# EAGLE library part ISO1042QDWVRQ1 (library SamacSys_Parts)
3.3V Isolated CAN Transceiver Source: Datasheet <http://www.ti.com/general/docs/suppproductinfo.tsp?distId=26&gotoUrl=http%3A%2F%2Fwww.ti.com%2Flit%2Fgpn%2Fsn65hvd230q>
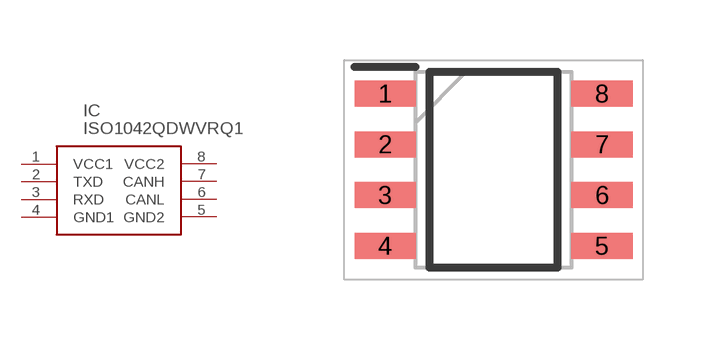
[diagram p4: symbol with the pads of SOIC-8N; footprint SOIC-8N]

Designator prefix IC

## ISO1042QDWVRQ1ISO1042QDWVRQ1 (DESCRIPTION: 3.3-V CAN Transceiver with Standby Mode; HEIGHT: 1.75mm; MANUFACTURER_NAME: Texas Instruments; MANUFACTURER_PART_NUMBER: SN65HVD230QDR; MOUSER_PART_NUMBER: 595-SN65HVD230QDR; MOUSER_PRICE-STOCK: https://www.mouser.com/Search/Refine.aspx?Keyword=595-SN65HVD230QDR)  [SOIC-8N]
1  VCC1
2  TXD
3  RXD
4  GND1
5  GND2
6  CANL
7  CANH
8  VCC2

## Footprint SOIC-8N (pad centres in mm)
SN65HVD230QDR
smd 1.528 x 0.65: 1 -2.711,1.905; 2 -2.711,0.635; 3 -2.711,-0.635; 4 -2.711,-1.905; 5 2.711,-1.905; 6 2.711,-0.635; 7 2.711,0.635; 8 2.711,1.905